# EAGLE library part AT42QT1244 (library ElectricNoodleBox)
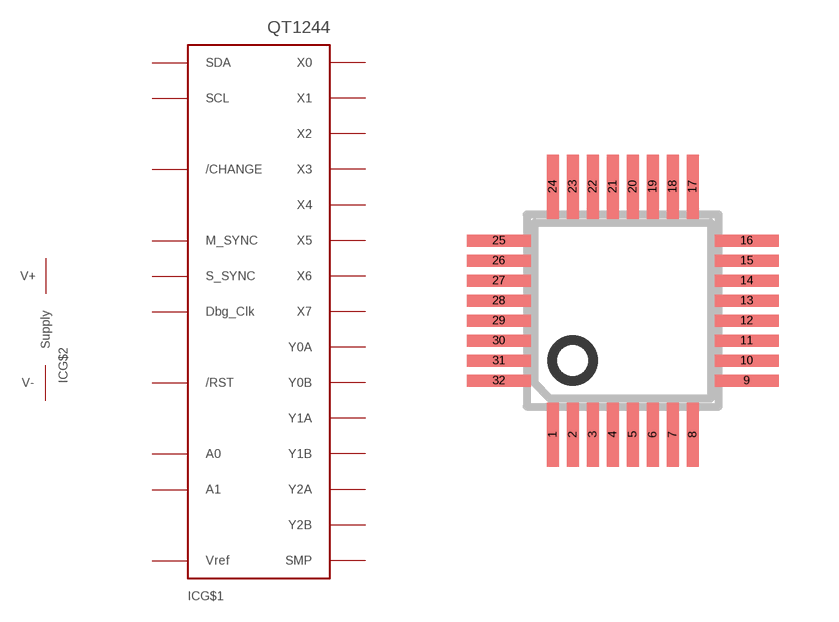
[diagram p36: symbol with the pads of LQFP-32; footprint LQFP-32]

Designator prefix IC; gates G$1=QT1244 G$2=SUPPLYPINS

## AT42QT1244  [LQFP-32]
1  G$1:M_SYNC
2  G$1:/CHANGE
3  G$2:V-
4  G$2:V+
5  G$2:V-
6  G$2:V+
7  G$1:X6
8  G$1:X7
9  G$1:DBG_CLK
10  G$1:VREF
11  G$1:S_SYNC
12  G$1:X0
13  G$1:X1
14  G$1:X2
15  G$1:X3
16  G$1:X4
17  G$1:X5
18  G$2:V+
19  G$1:A1
20  G$2:V+
21  G$2:V-
22  G$1:A0
23  G$1:Y0B
24  G$1:Y1B
25  G$1:Y2B
26  G$1:SMP
27  G$1:SDA
28  G$1:SCL
29  G$1:/RST
30  G$1:Y0A
31  G$1:Y1A
32  G$1:Y2A

## Footprint LQFP-32 (pad centres in mm)
Quad FLat Pack RFMicro Device TQFP / LQFP-32 see IPC-SQR.LBR SQFP 5x5-32
smd 0.3 x 1.6: 1 -1.75,-3.1; 2 -1.25,-3.1; 3 -0.75,-3.1; 4 -0.25,-3.1; 5 0.25,-3.1; 6 0.75,-3.1; 7 1.25,-3.1; 8 1.75,-3.1; 17 1.75,3.1; 18 1.25,3.1; 19 0.75,3.1; 20 0.25,3.1; 21 -0.25,3.1; 22 -0.75,3.1; 23 -1.25,3.1; 24 -1.75,3.1
smd 1.6 x 0.3: 9 3.1,-1.75; 10 3.1,-1.25; 11 3.1,-0.75; 12 3.1,-0.25; 13 3.1,0.25; 14 3.1,0.75; 15 3.1,1.25; 16 3.1,1.75; 25 -3.1,1.75; 26 -3.1,1.25; 27 -3.1,0.75; 28 -3.1,0.25; 29 -3.1,-0.25; 30 -3.1,-0.75; 31 -3.1,-1.25; 32 -3.1,-1.75